# Altium schematic symbol library TC2117_DB.SchLib: 1 symbol
Pins are listed as number, name and electrical type; pins without a type are passive.

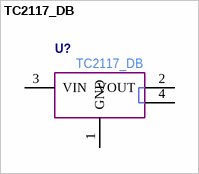
[diagram p0: symbol TC2117_DB]

## TC2117_DB
designator U?  Manufacturer Part Number: TC2117_DB  (hidden comment: *)
pins: 1 GND (power), 2 VOUT (power), 3 VIN (power), 4 VOUT (power)